# Altium integrated library Analog Devices Data Converters Digital-to-Analog Converters.IntLib: 2231 symbols (part 173 of 181)
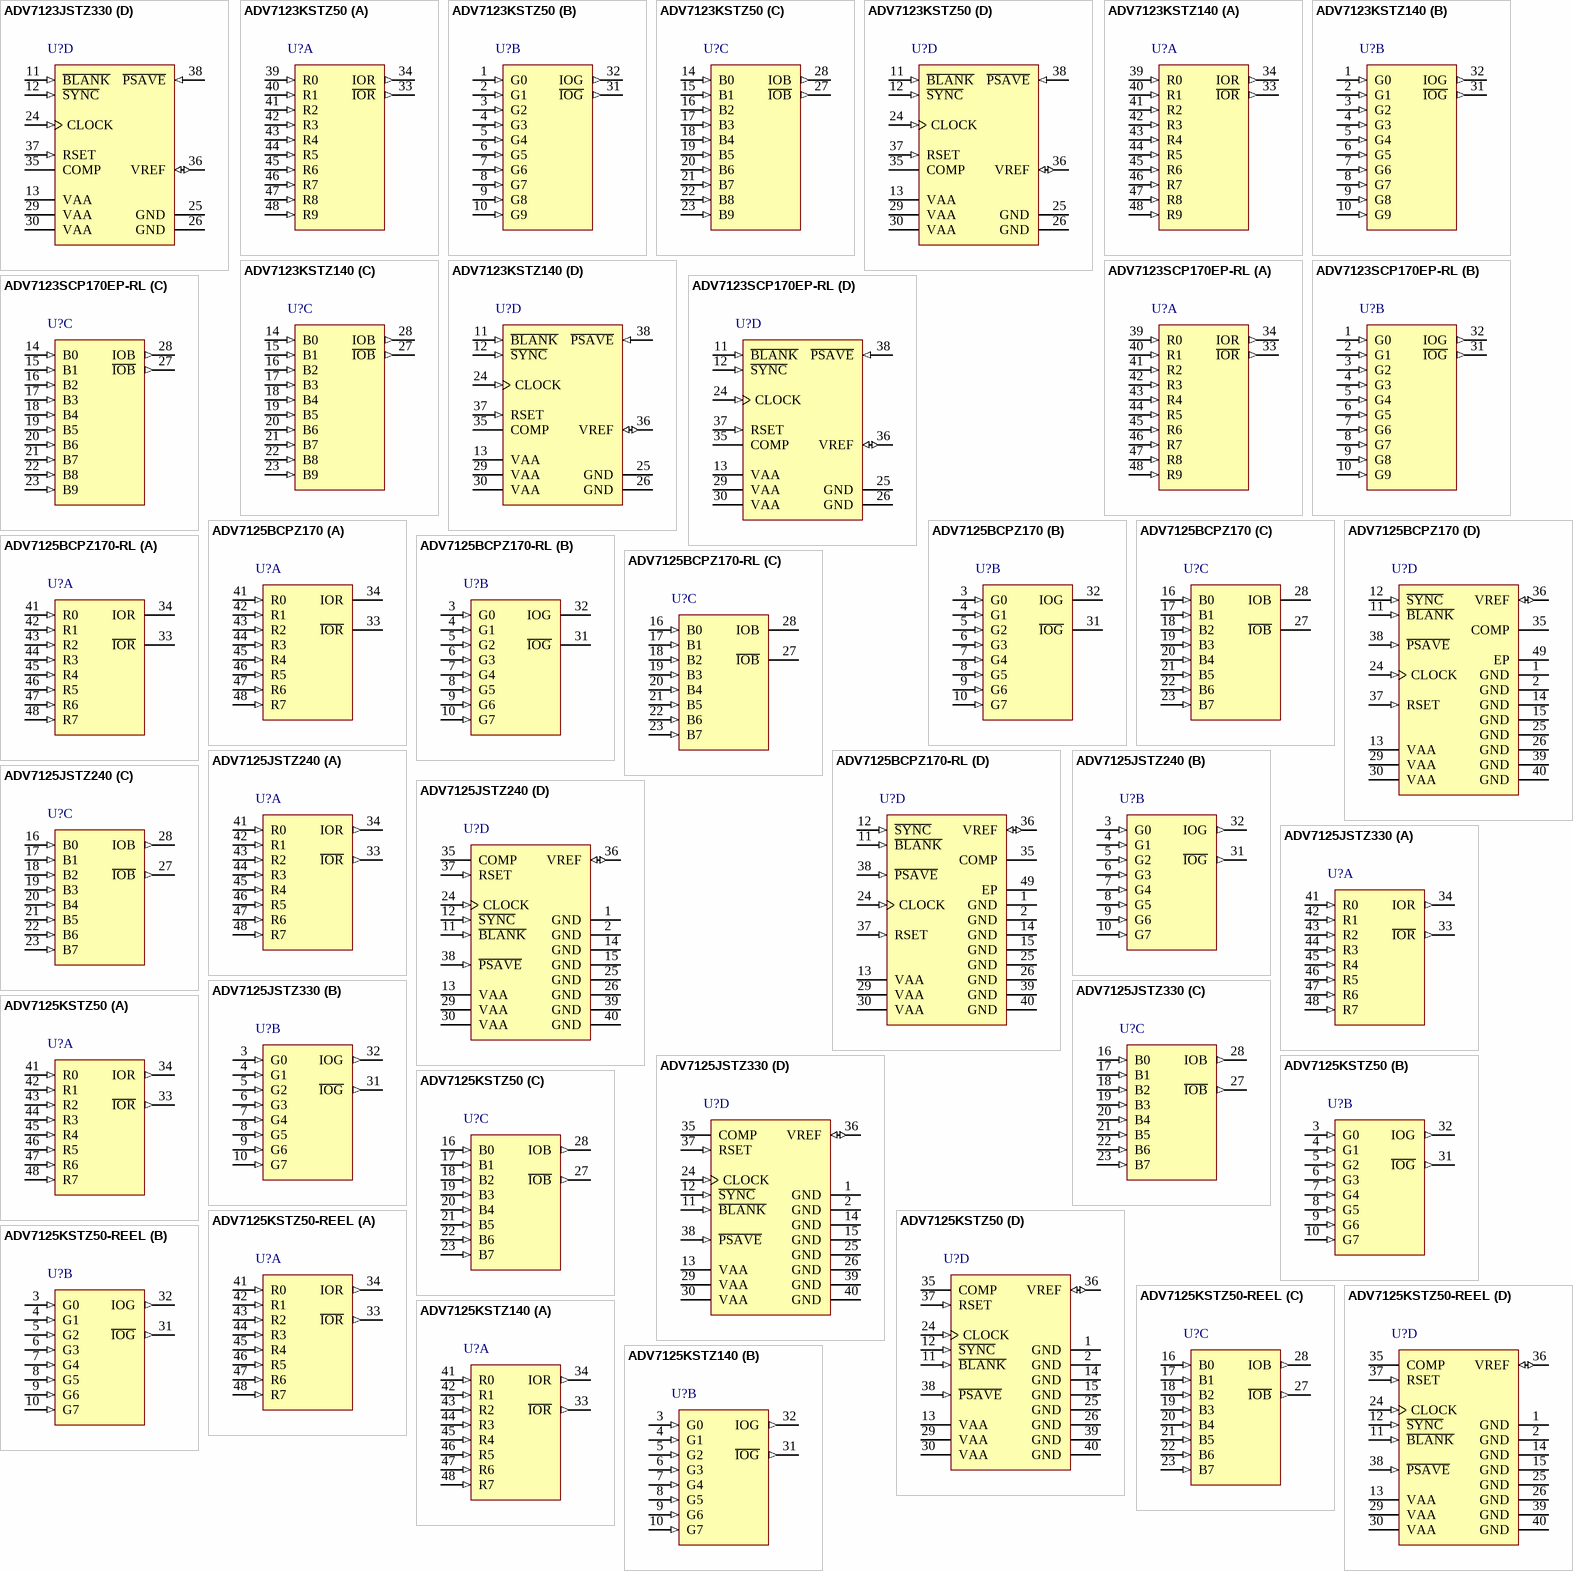
[diagram p286: symbols ADV7123JSTZ330 to ADV7125KSTZ140]

## ADV7125BCPZ170-RL
designator U?
3 Channel 8-Bit CMOS High Speed Video Digital-to-Analog Converter, -40 to +85 degC, CP-48-1, Pb-Free, Reel; Generic Part Number: ADV7125; Manufacturer: Analog Devices; PartNumber: ADV7125BCPZ170-RL; # DAC Outputs: 3; Max V+: 5.25V; Op Pwr Diss: 485mW; Resolution (Bits): 8; Single Supply: No; DatasheetVersion: Rev.C; PackageVersion: Jan-2005; PackageReference: CP-48-1; PackageDescription: 48-Lead Lead Frame Chip Scale Package [LFCSP_VQ] 7 x 7 mm Body, Very Thin Quad; Supplier 1: Mouser; Supplier Part Number 1: N/A; Packing: Reel; RoHS: Y; Mounting Technology: Surface Mount; Code_JEDEC: MO-220-VKKD-2; ComponentLink1Description: Manufacturer URL; ComponentLink1URL: http://www.analog.com/en/index.html; ComponentLink2Description: Datasheet; ComponentLink2URL: http://www.analog.com/static/imported-files/data_sheets/ADV7125.pdf; ComponentLink3Description: Package Specification; ComponentLink3URL: http://www.analog.com/static/imported-files/packages/PKG_PDF/LFCSP(CP)/CP-48/CP_48_1.pdf; ComponentLink4Description: Product URL; ComponentLink4URL: http://www.analog.com/en/digital-to-analog-converters/da-converters/adv7125/products/product.html
footprint CP-48-1_N (QFN, 48-Leads, Body 7x7mm, Pitch 0.5mm, Thermal Pad 5.1x5.1mm, IPC Medium Density)
footprint CP-48-1_L (QFN, 48-Leads, Body 7x7mm, Pitch 0.5mm, Thermal Pad 5.1x5.1mm, IPC High Density)
footprint CP-48-1_M (QFN, 48-Leads, Body 7x7mm, Pitch 0.5mm, Thermal Pad 5.1x5.1mm, IPC Low Density)
part A pins: 33 ~{IOR} (hiz) "Differential Red, Green, and Blue Current Outputs (High Impedance Current Sources). These RGB video outputs are specified to directly drive RS-343A and RS-170 video levels into a doubly terminated 75 ohm load. If the (See Datasheet)", 34 IOR (hiz) "Red, Green, and Blue Current Outputs. These high impedance current sources are capable of directly driving a doubly terminated 75 O coaxial cable. All three current outputs should have similar output loads whether or not (See Datasheet)", 41 R0 (in) "Red, Green, and Blue Pixel Data Inputs (TTL Compatible). Pixel data is latched on the rising edge of CLOCK. R0, G0, and B0 are the least significant data bits. Unused pixel data inputs should be connected to either the (See Datasheet)", 42 R1 (in) "Red, Green, and Blue Pixel Data Inputs (TTL Compatible). Pixel data is latched on the rising edge of CLOCK. R0, G0, and B0 are the least significant data bits. Unused pixel data inputs should be connected to either the (See Datasheet)", 43 R2 (in) "Red, Green, and Blue Pixel Data Inputs (TTL Compatible). Pixel data is latched on the rising edge of CLOCK. R0, G0, and B0 are the least significant data bits. Unused pixel data inputs should be connected to either the (See Datasheet)", 44 R3 (in) "Red, Green, and Blue Pixel Data Inputs (TTL Compatible). Pixel data is latched on the rising edge of CLOCK. R0, G0, and B0 are the least significant data bits. Unused pixel data inputs should be connected to either the (See Datasheet)", 45 R4 (in) "Red, Green, and Blue Pixel Data Inputs (TTL Compatible). Pixel data is latched on the rising edge of CLOCK. R0, G0, and B0 are the least significant data bits. Unused pixel data inputs should be connected to either the (See Datasheet)", 46 R5 (in) "Red, Green, and Blue Pixel Data Inputs (TTL Compatible). Pixel data is latched on the rising edge of CLOCK. R0, G0, and B0 are the least significant data bits. Unused pixel data inputs should be connected to either the (See Datasheet)", 47 R6 (in) "Red, Green, and Blue Pixel Data Inputs (TTL Compatible). Pixel data is latched on the rising edge of CLOCK. R0, G0, and B0 are the least significant data bits. Unused pixel data inputs should be connected to either the (See Datasheet)", 48 R7 (in) "Red, Green, and Blue Pixel Data Inputs (TTL Compatible). Pixel data is latched on the rising edge of CLOCK. R0, G0, and B0 are the least significant data bits. Unused pixel data inputs should be connected to either the (See Datasheet)"
part B pins: 3 G0 (in) "Red, Green, and Blue Pixel Data Inputs (TTL Compatible). Pixel data is latched on the rising edge of CLOCK. R0, G0, and B0 are the least significant data bits. Unused pixel data inputs should be connected to either the (See Datasheet)", 4 G1 (in) "Red, Green, and Blue Pixel Data Inputs (TTL Compatible). Pixel data is latched on the rising edge of CLOCK. R0, G0, and B0 are the least significant data bits. Unused pixel data inputs should be connected to either the (See Datasheet)", 5 G2 (in) "Red, Green, and Blue Pixel Data Inputs (TTL Compatible). Pixel data is latched on the rising edge of CLOCK. R0, G0, and B0 are the least significant data bits. Unused pixel data inputs should be connected to either the (See Datasheet)", 6 G3 (in) "Red, Green, and Blue Pixel Data Inputs (TTL Compatible). Pixel data is latched on the rising edge of CLOCK. R0, G0, and B0 are the least significant data bits. Unused pixel data inputs should be connected to either the (See Datasheet)", 7 G4 (in) "Red, Green, and Blue Pixel Data Inputs (TTL Compatible). Pixel data is latched on the rising edge of CLOCK. R0, G0, and B0 are the least significant data bits. Unused pixel data inputs should be connected to either the (See Datasheet)", 8 G5 (in) "Red, Green, and Blue Pixel Data Inputs (TTL Compatible). Pixel data is latched on the rising edge of CLOCK. R0, G0, and B0 are the least significant data bits. Unused pixel data inputs should be connected to either the (See Datasheet)", 9 G6 (in) "Red, Green, and Blue Pixel Data Inputs (TTL Compatible). Pixel data is latched on the rising edge of CLOCK. R0, G0, and B0 are the least significant data bits. Unused pixel data inputs should be connected to either the (See Datasheet)", 10 G7 (in) "Red, Green, and Blue Pixel Data Inputs (TTL Compatible). Pixel data is latched on the rising edge of CLOCK. R0, G0, and B0 are the least significant data bits. Unused pixel data inputs should be connected to either the (See Datasheet)", 31 ~{IOG} (hiz) "Differential Red, Green, and Blue Current Outputs (High Impedance Current Sources). These RGB video outputs are specified to directly drive RS-343A and RS-170 video levels into a doubly terminated 75 ohm load. If the (See Datasheet)", 32 IOG (hiz) "Red, Green, and Blue Current Outputs. These high impedance current sources are capable of directly driving a doubly terminated 75 O coaxial cable. All three current outputs should have similar output loads whether or not (See Datasheet)"
part C pins: 16 B0 (in) "Red, Green, and Blue Pixel Data Inputs (TTL Compatible). Pixel data is latched on the rising edge of CLOCK. R0, G0, and B0 are the least significant data bits. Unused pixel data inputs should be connected to either the (See Datasheet)", 17 B1 (in) "Red, Green, and Blue Pixel Data Inputs (TTL Compatible). Pixel data is latched on the rising edge of CLOCK. R0, G0, and B0 are the least significant data bits. Unused pixel data inputs should be connected to either the (See Datasheet)", 18 B2 (in) "Red, Green, and Blue Pixel Data Inputs (TTL Compatible). Pixel data is latched on the rising edge of CLOCK. R0, G0, and B0 are the least significant data bits. Unused pixel data inputs should be connected to either the (See Datasheet)", 19 B3 (in) "Red, Green, and Blue Pixel Data Inputs (TTL Compatible). Pixel data is latched on the rising edge of CLOCK. R0, G0, and B0 are the least significant data bits. Unused pixel data inputs should be connected to either the (See Datasheet)", 20 B4 (in) "Red, Green, and Blue Pixel Data Inputs (TTL Compatible). Pixel data is latched on the rising edge of CLOCK. R0, G0, and B0 are the least significant data bits. Unused pixel data inputs should be connected to either the (See Datasheet)", 21 B5 (in) "Red, Green, and Blue Pixel Data Inputs (TTL Compatible). Pixel data is latched on the rising edge of CLOCK. R0, G0, and B0 are the least significant data bits. Unused pixel data inputs should be connected to either the (See Datasheet)", 22 B6 (in) "Red, Green, and Blue Pixel Data Inputs (TTL Compatible). Pixel data is latched on the rising edge of CLOCK. R0, G0, and B0 are the least significant data bits. Unused pixel data inputs should be connected to either the (See Datasheet)", 23 B7 (in) "Red, Green, and Blue Pixel Data Inputs (TTL Compatible). Pixel data is latched on the rising edge of CLOCK. R0, G0, and B0 are the least significant data bits. Unused pixel data inputs should be connected to either the (See Datasheet)", 27 ~{IOB} (hiz) "Differential Red, Green, and Blue Current Outputs (High Impedance Current Sources). These RGB video outputs are specified to directly drive RS-343A and RS-170 video levels into a doubly terminated 75 ohm load. If the (See Datasheet)", 28 IOB (hiz) "Red, Green, and Blue Current Outputs. These high impedance current sources are capable of directly driving a doubly terminated 75 O coaxial cable. All three current outputs should have similar output loads whether or not (See Datasheet)"
part D pins: 1 GND (power) "Ground. All GND pins must be connected.", 2 GND (power) "Ground. All GND pins must be connected.", 11 ~{BLANK} (in) "Composite Blank Control Input (TTL Compatible). A Logic 0 on this control input drives the analog outputs, IOR, IOB, and IOG, to the blanking level. The B\L\A\N\K\ signal is latched on the rising edge of CLOCK. While (See Datasheet)", 12 ~{SYNC} (in) "Composite Sync Control Input (TTL Compatible). A Logic 0 on the S\Y\N\C\ input switches off a  40 IRE current source. This is internally connected to the IOG analog output. S\Y\N\C\ does not override any other control or (See Datasheet)", 13 VAA (power) "Analog Power Supply (5 V +/- 5%). All VAA pins on the ADV7125 must be connected.", 14 GND (power) "Ground. All GND pins must be connected.", 15 GND (power) "Ground. All GND pins must be connected.", 24 CLOCK (in) "Clock Input (TTL Compatible). The rising edge of CLOCK latches the R0 to R7, G0 to G7, B0 to B7, S\Y\N\C\, and B\L\A\N\K\ pixel and control inputs. It is typically the pixel clock rate of the video system. CLOCK should be (See Datasheet)", 25 GND (power) "Ground. All GND pins must be connected.", 26 GND (power) "Ground. All GND pins must be connected.", 29 VAA (power) "Analog Power Supply (5 V +/- 5%). All VAA pins on the ADV7125 must be connected.", 30 VAA (power) "Analog Power Supply (5 V +/- 5%). All VAA pins on the ADV7125 must be connected.", 35 COMP "Compensation Pin. This is a compensation pin for the internal reference amplifier. A 0.1 uF ceramic capacitor must be connected between COMP and VAA.", 36 VREF (io) "Voltage Reference Input for DACs or Voltage Reference Output (1.235 V).", 37 RSET (in) "A resistor (RSET) connected between this pin and GND controls the magnitude of the full-scale video signal. Note that the IRE relationships are maintained, regardless of the full-scale output current. The RSET (ohm) = 11,445 (See Datasheet)", 38 ~{PSAVE} (in) "Power Save Control Pin. Reduced power consumption is available on the ADV7125 when this pin is active.", 39 GND (power) "Ground. All GND pins must be connected.", 40 GND (power) "Ground. All GND pins must be connected.", 49 EP (power) "The LFCSP_VQ has an exposed paddle that must be connected to GND."

## ADV7125JSTZ240
designator U?
3 Channel 8-Bit CMOS High Speed Video Digital-to-Analog Converter, 0 to +70 degC, ST-48, Pb-Free, Tray; Generic Part Number: ADV7125; Manufacturer: Analog Devices; PartNumber: ADV7125JSTZ240; # DAC Outputs: 3; Max V+: 5.25V; Op Pwr Diss: 485mW; Resolution (Bits): 8; Single Supply: No; DatasheetVersion: Rev.C; PackageVersion: revA; PackageReference: ST-48; PackageDescription: 48-Pin Thin Quad Flat Pack 0.5 mm Pitch; Supplier 1: Digi-Key; Supplier Part Number 1: ADV7125JSTZ240-ND; Supplier 2: Farnell; Supplier Part Number 2: 1438733; Supplier 3: Newark; Supplier Part Number 3: 12M8411; Supplier 4: Mouser; Supplier Part Number 4: 584-ADV7125JSTZ240; Packing: Tray; RoHS: Y; Mounting Technology: Surface Mount; ComponentLink1Description: Manufacturer URL; ComponentLink1URL: http://www.analog.com/en/index.html; ComponentLink2Description: Datasheet; ComponentLink2URL: http://www.analog.com/static/imported-files/data_sheets/ADV7125.pdf; ComponentLink3Description: Package Specification; ComponentLink3URL: http://www.analog.com/static/imported-files/packages/PKG_PDF/LQFP%28ST%29/ST_48.pdf; ComponentLink4Description: Product URL; ComponentLink4URL: http://www.analog.com/en/digital-to-analog-converters/da-converters/adv7125/products/product.html
footprint ST-48_N (Thin QFP, 48-Leads, Body 7x7mm, Pitch 0.5mm, IPC Medium Density)
footprint ST-48_L (Thin QFP, 48-Leads, Body 7x7mm, Pitch 0.5mm, IPC High Density)
footprint ST-48_M (Thin QFP, 48-Leads, Body 7x7mm, Pitch 0.5mm, IPC Low Density)
part A pins: 33 ~{IOR} (out) "Differential Red, Green, and Blue Current Outputs (High Impedance Current Sources). These RGB video outputs are specified to directly drive RS-343A and RS-170 video levels into a doubly terminated 75 ohm load. If the (See Datasheet)", 34 IOR (out) "Red, Green, and Blue Current Outputs. These high impedance current sources are capable of directly driving a doubly terminated 75 ohm coaxial cable. All three current outputs should have similar output loads whether or not (See Datasheet)", 41 R0 (in) "Red Pixel Data Inputs (TTL Compatible). Pixel data is latched on the rising edge of CLOCK. R0, G0, and B0 are the least significant data bits. Unused pixel data inputs should be connected to either the regular printed (See Datasheet)", 42 R1 (in) "Red Pixel Data Inputs (TTL Compatible). Pixel data is latched on the rising edge of CLOCK. R0, G0, and B0 are the least significant data bits. Unused pixel data inputs should be connected to either the regular printed (See Datasheet)", 43 R2 (in) "Red Pixel Data Inputs (TTL Compatible). Pixel data is latched on the rising edge of CLOCK. R0, G0, and B0 are the least significant data bits. Unused pixel data inputs should be connected to either the regular printed (See Datasheet)", 44 R3 (in) "Red Pixel Data Inputs (TTL Compatible). Pixel data is latched on the rising edge of CLOCK. R0, G0, and B0 are the least significant data bits. Unused pixel data inputs should be connected to either the regular printed (See Datasheet)", 45 R4 (in) "Red Pixel Data Inputs (TTL Compatible). Pixel data is latched on the rising edge of CLOCK. R0, G0, and B0 are the least significant data bits. Unused pixel data inputs should be connected to either the regular printed (See Datasheet)", 46 R5 (in) "Red Pixel Data Inputs (TTL Compatible). Pixel data is latched on the rising edge of CLOCK. R0, G0, and B0 are the least significant data bits. Unused pixel data inputs should be connected to either the regular printed (See Datasheet)", 47 R6 (in) "Red Pixel Data Inputs (TTL Compatible). Pixel data is latched on the rising edge of CLOCK. R0, G0, and B0 are the least significant data bits. Unused pixel data inputs should be connected to either the regular printed (See Datasheet)", 48 R7 (in) "Red Pixel Data Inputs (TTL Compatible). Pixel data is latched on the rising edge of CLOCK. R0, G0, and B0 are the least significant data bits. Unused pixel data inputs should be connected to either the regular printed (See Datasheet)"
part B pins: 3 G0 (in) "Green Pixel Data Inputs (TTL Compatible). Pixel data is latched on the rising edge of CLOCK. R0, G0, and B0 are the least significant data bits. Unused pixel data inputs should be connected to either the regular printed (See Datasheet)", 4 G1 (in) "Green Pixel Data Inputs (TTL Compatible). Pixel data is latched on the rising edge of CLOCK. R0, G0, and B0 are the least significant data bits. Unused pixel data inputs should be connected to either the regular printed (See Datasheet)", 5 G2 (in) "Green Pixel Data Inputs (TTL Compatible). Pixel data is latched on the rising edge of CLOCK. R0, G0, and B0 are the least significant data bits. Unused pixel data inputs should be connected to either the regular printed (See Datasheet)", 6 G3 (in) "Green Pixel Data Inputs (TTL Compatible). Pixel data is latched on the rising edge of CLOCK. R0, G0, and B0 are the least significant data bits. Unused pixel data inputs should be connected to either the regular printed (See Datasheet)", 7 G4 (in) "Green Pixel Data Inputs (TTL Compatible). Pixel data is latched on the rising edge of CLOCK. R0, G0, and B0 are the least significant data bits. Unused pixel data inputs should be connected to either the regular printed (See Datasheet)", 8 G5 (in) "Green Pixel Data Inputs (TTL Compatible). Pixel data is latched on the rising edge of CLOCK. R0, G0, and B0 are the least significant data bits. Unused pixel data inputs should be connected to either the regular printed (See Datasheet)", 9 G6 (in) "Green Pixel Data Inputs (TTL Compatible). Pixel data is latched on the rising edge of CLOCK. R0, G0, and B0 are the least significant data bits. Unused pixel data inputs should be connected to either the regular printed (See Datasheet)", 10 G7 (in) "Green Pixel Data Inputs (TTL Compatible). Pixel data is latched on the rising edge of CLOCK. R0, G0, and B0 are the least significant data bits. Unused pixel data inputs should be connected to either the regular printed (See Datasheet)", 31 ~{IOG} (out) "Differential Red, Green, and Blue Current Outputs (High Impedance Current Sources). These RGB video outputs are specified to directly drive RS-343A and RS-170 video levels into a doubly terminated 75 ohm load. If the (See Datasheet)", 32 IOG (out) "Red, Green, and Blue Current Outputs. These high impedance current sources are capable of directly driving a doubly terminated 75 ohm coaxial cable. All three current outputs should have similar output loads whether or not (See Datasheet)"
part C pins: 16 B0 (in) "Blue Pixel Data Inputs (TTL Compatible). Pixel data is latched on the rising edge of CLOCK. R0, G0, and B0 are the least significant data bits. Unused pixel data inputs should be connected to either the regular printed (See Datasheet)", 17 B1 (in) "Blue Pixel Data Inputs (TTL Compatible). Pixel data is latched on the rising edge of CLOCK. R0, G0, and B0 are the least significant data bits. Unused pixel data inputs should be connected to either the regular printed (See Datasheet)", 18 B2 (in) "Blue Pixel Data Inputs (TTL Compatible). Pixel data is latched on the rising edge of CLOCK. R0, G0, and B0 are the least significant data bits. Unused pixel data inputs should be connected to either the regular printed (See Datasheet)", 19 B3 (in) "Blue Pixel Data Inputs (TTL Compatible). Pixel data is latched on the rising edge of CLOCK. R0, G0, and B0 are the least significant data bits. Unused pixel data inputs should be connected to either the regular printed (See Datasheet)", 20 B4 (in) "Blue Pixel Data Inputs (TTL Compatible). Pixel data is latched on the rising edge of CLOCK. R0, G0, and B0 are the least significant data bits. Unused pixel data inputs should be connected to either the regular printed (See Datasheet)", 21 B5 (in) "Blue Pixel Data Inputs (TTL Compatible). Pixel data is latched on the rising edge of CLOCK. R0, G0, and B0 are the least significant data bits. Unused pixel data inputs should be connected to either the regular printed (See Datasheet)", 22 B6 (in) "Blue Pixel Data Inputs (TTL Compatible). Pixel data is latched on the rising edge of CLOCK. R0, G0, and B0 are the least significant data bits. Unused pixel data inputs should be connected to either the regular printed (See Datasheet)", 23 B7 (in) "Blue Pixel Data Inputs (TTL Compatible). Pixel data is latched on the rising edge of CLOCK. R0, G0, and B0 are the least significant data bits. Unused pixel data inputs should be connected to either the regular printed (See Datasheet)", 27 ~{IOB} (out) "Differential Red, Green, and Blue Current Outputs (High Impedance Current Sources). These RGB video outputs are specified to directly drive RS-343A and RS-170 video levels into a doubly terminated 75 ohm load. If the (See Datasheet)", 28 IOB (out) "Red, Green, and Blue Current Outputs. These high impedance current sources are capable of directly driving a doubly terminated 75 ohm coaxial cable. All three current outputs should have similar output loads whether or not (See Datasheet)"
part D pins: 1 GND (power) "Ground. All GND pins must be connected.", 2 GND (power) "Ground. All GND pins must be connected.", 11 ~{BLANK} (in) "Composite Blank Control Input (TTL Compatible). A Logic 0 on this control input drives the analog outputs, IOR, IOB, and IOG, to the blanking level. The B\L\A\N\K\ signal is latched on the rising edge of CLOCK. While (See Datasheet)", 12 ~{SYNC} (in) "Composite Sync Control Input (TTL Compatible). A Logic 0 on the S\Y\N\C\ input switches off a 40 IRE current source. This is internally connected to the IOG analog output. S\Y\N\C\ does not override any other control or data (See Datasheet)", 13 VAA (power) "Analog Power Supply (5 V +/- 5%). All VAA pins on the ADV7125 must be connected.", 14 GND (power) "Ground. All GND pins must be connected.", 15 GND (power) "Ground. All GND pins must be connected.", 24 CLOCK (in) "Clock Input (TTL Compatible). The rising edge of CLOCK latches the R0 to R7, G0 to G7, B0 to B7, S\Y\N\C\, and B\L\A\N\K\ pixel and control inputs. It is typically the pixel clock rate of the video system. CLOCK should be (See Datasheet)", 25 GND (power) "Ground. All GND pins must be connected.", 26 GND (power) "Ground. All GND pins must be connected.", 29 VAA (power) "Analog Power Supply (5 V +/- 5%). All VAA pins on the ADV7125 must be connected.", 30 VAA (power) "Analog Power Supply (5 V +/- 5%). All VAA pins on the ADV7125 must be connected.", 35 COMP "Compensation Pin. This is a compensation pin for the internal reference amplifier. A 0.1 uF ceramic capacitor must be connected between COMP and VAA.", 36 VREF (io) "Voltage Reference Input for DACs or Voltage Reference Output (1.235 V).", 37 RSET (in) "A resistor (RSET) connected between this pin and GND controls the magnitude of the full-scale video signal. Note that the IRE relationships are maintained, regardless of the full-scale output current. The relationship (See Datasheet)", 38 ~{PSAVE} (in) "Power Save Control Pin. Reduced power consumption is available on the ADV7125 when this pin is active.", 39 GND (power) "Ground. All GND pins must be connected.", 40 GND (power) "Ground. All GND pins must be connected."

## ADV7125JSTZ330
designator U?
3 Channel 8-Bit CMOS High Speed Video Digital-to-Analog Converter, 0 to +70 degC, ST-48, Pb-Free, Tray; Generic Part Number: ADV7125; Manufacturer: Analog Devices; PartNumber: ADV7125JSTZ330; # DAC Outputs: 3; Max V+: 5.25V; Op Pwr Diss: 485mW; Resolution (Bits): 8; Single Supply: No; DatasheetVersion: Rev.C; PackageVersion: revA; PackageReference: ST-48; PackageDescription: 48-Pin Thin Quad Flat Pack 0.5 mm Pitch; Supplier 1: Digi-Key; Supplier Part Number 1: ADV7125JSTZ330-ND; Supplier 2: Newark; Supplier Part Number 2: 59K3317; Supplier 3: Mouser; Supplier Part Number 3: 584-ADV7125JSTZ330; Packing: Tray; RoHS: Y; Mounting Technology: Surface Mount; ComponentLink1Description: Manufacturer URL; ComponentLink1URL: http://www.analog.com/en/index.html; ComponentLink2Description: Datasheet; ComponentLink2URL: http://www.analog.com/static/imported-files/data_sheets/ADV7125.pdf; ComponentLink3Description: Package Specification; ComponentLink3URL: http://www.analog.com/static/imported-files/packages/PKG_PDF/LQFP%28ST%29/ST_48.pdf; ComponentLink4Description: Product URL; ComponentLink4URL: http://www.analog.com/en/digital-to-analog-converters/da-converters/adv7125/products/product.html
footprint ST-48_N (Thin QFP, 48-Leads, Body 7x7mm, Pitch 0.5mm, IPC Medium Density)
footprint ST-48_L (Thin QFP, 48-Leads, Body 7x7mm, Pitch 0.5mm, IPC High Density)
footprint ST-48_M (Thin QFP, 48-Leads, Body 7x7mm, Pitch 0.5mm, IPC Low Density)
part A pins: 33 ~{IOR} (out) "Differential Red, Green, and Blue Current Outputs (High Impedance Current Sources). These RGB video outputs are specified to directly drive RS-343A and RS-170 video levels into a doubly terminated 75 ohm load. If the (See Datasheet)", 34 IOR (out) "Red, Green, and Blue Current Outputs. These high impedance current sources are capable of directly driving a doubly terminated 75 ohm coaxial cable. All three current outputs should have similar output loads whether or not (See Datasheet)", 41 R0 (in) "Red Pixel Data Inputs (TTL Compatible). Pixel data is latched on the rising edge of CLOCK. R0, G0, and B0 are the least significant data bits. Unused pixel data inputs should be connected to either the regular printed (See Datasheet)", 42 R1 (in) "Red Pixel Data Inputs (TTL Compatible). Pixel data is latched on the rising edge of CLOCK. R0, G0, and B0 are the least significant data bits. Unused pixel data inputs should be connected to either the regular printed (See Datasheet)", 43 R2 (in) "Red Pixel Data Inputs (TTL Compatible). Pixel data is latched on the rising edge of CLOCK. R0, G0, and B0 are the least significant data bits. Unused pixel data inputs should be connected to either the regular printed (See Datasheet)", 44 R3 (in) "Red Pixel Data Inputs (TTL Compatible). Pixel data is latched on the rising edge of CLOCK. R0, G0, and B0 are the least significant data bits. Unused pixel data inputs should be connected to either the regular printed (See Datasheet)", 45 R4 (in) "Red Pixel Data Inputs (TTL Compatible). Pixel data is latched on the rising edge of CLOCK. R0, G0, and B0 are the least significant data bits. Unused pixel data inputs should be connected to either the regular printed (See Datasheet)", 46 R5 (in) "Red Pixel Data Inputs (TTL Compatible). Pixel data is latched on the rising edge of CLOCK. R0, G0, and B0 are the least significant data bits. Unused pixel data inputs should be connected to either the regular printed (See Datasheet)", 47 R6 (in) "Red Pixel Data Inputs (TTL Compatible). Pixel data is latched on the rising edge of CLOCK. R0, G0, and B0 are the least significant data bits. Unused pixel data inputs should be connected to either the regular printed (See Datasheet)", 48 R7 (in) "Red Pixel Data Inputs (TTL Compatible). Pixel data is latched on the rising edge of CLOCK. R0, G0, and B0 are the least significant data bits. Unused pixel data inputs should be connected to either the regular printed (See Datasheet)"
part B pins: 3 G0 (in) "Green Pixel Data Inputs (TTL Compatible). Pixel data is latched on the rising edge of CLOCK. R0, G0, and B0 are the least significant data bits. Unused pixel data inputs should be connected to either the regular printed (See Datasheet)", 4 G1 (in) "Green Pixel Data Inputs (TTL Compatible). Pixel data is latched on the rising edge of CLOCK. R0, G0, and B0 are the least significant data bits. Unused pixel data inputs should be connected to either the regular printed (See Datasheet)", 5 G2 (in) "Green Pixel Data Inputs (TTL Compatible). Pixel data is latched on the rising edge of CLOCK. R0, G0, and B0 are the least significant data bits. Unused pixel data inputs should be connected to either the regular printed (See Datasheet)", 6 G3 (in) "Green Pixel Data Inputs (TTL Compatible). Pixel data is latched on the rising edge of CLOCK. R0, G0, and B0 are the least significant data bits. Unused pixel data inputs should be connected to either the regular printed (See Datasheet)", 7 G4 (in) "Green Pixel Data Inputs (TTL Compatible). Pixel data is latched on the rising edge of CLOCK. R0, G0, and B0 are the least significant data bits. Unused pixel data inputs should be connected to either the regular printed (See Datasheet)", 8 G5 (in) "Green Pixel Data Inputs (TTL Compatible). Pixel data is latched on the rising edge of CLOCK. R0, G0, and B0 are the least significant data bits. Unused pixel data inputs should be connected to either the regular printed (See Datasheet)", 9 G6 (in) "Green Pixel Data Inputs (TTL Compatible). Pixel data is latched on the rising edge of CLOCK. R0, G0, and B0 are the least significant data bits. Unused pixel data inputs should be connected to either the regular printed (See Datasheet)", 10 G7 (in) "Green Pixel Data Inputs (TTL Compatible). Pixel data is latched on the rising edge of CLOCK. R0, G0, and B0 are the least significant data bits. Unused pixel data inputs should be connected to either the regular printed (See Datasheet)", 31 ~{IOG} (out) "Differential Red, Green, and Blue Current Outputs (High Impedance Current Sources). These RGB video outputs are specified to directly drive RS-343A and RS-170 video levels into a doubly terminated 75 ohm load. If the (See Datasheet)", 32 IOG (out) "Red, Green, and Blue Current Outputs. These high impedance current sources are capable of directly driving a doubly terminated 75 ohm coaxial cable. All three current outputs should have similar output loads whether or not (See Datasheet)"
part C pins: 16 B0 (in) "Blue Pixel Data Inputs (TTL Compatible). Pixel data is latched on the rising edge of CLOCK. R0, G0, and B0 are the least significant data bits. Unused pixel data inputs should be connected to either the regular printed (See Datasheet)", 17 B1 (in) "Blue Pixel Data Inputs (TTL Compatible). Pixel data is latched on the rising edge of CLOCK. R0, G0, and B0 are the least significant data bits. Unused pixel data inputs should be connected to either the regular printed (See Datasheet)", 18 B2 (in) "Blue Pixel Data Inputs (TTL Compatible). Pixel data is latched on the rising edge of CLOCK. R0, G0, and B0 are the least significant data bits. Unused pixel data inputs should be connected to either the regular printed (See Datasheet)", 19 B3 (in) "Blue Pixel Data Inputs (TTL Compatible). Pixel data is latched on the rising edge of CLOCK. R0, G0, and B0 are the least significant data bits. Unused pixel data inputs should be connected to either the regular printed (See Datasheet)", 20 B4 (in) "Blue Pixel Data Inputs (TTL Compatible). Pixel data is latched on the rising edge of CLOCK. R0, G0, and B0 are the least significant data bits. Unused pixel data inputs should be connected to either the regular printed (See Datasheet)", 21 B5 (in) "Blue Pixel Data Inputs (TTL Compatible). Pixel data is latched on the rising edge of CLOCK. R0, G0, and B0 are the least significant data bits. Unused pixel data inputs should be connected to either the regular printed (See Datasheet)", 22 B6 (in) "Blue Pixel Data Inputs (TTL Compatible). Pixel data is latched on the rising edge of CLOCK. R0, G0, and B0 are the least significant data bits. Unused pixel data inputs should be connected to either the regular printed (See Datasheet)", 23 B7 (in) "Blue Pixel Data Inputs (TTL Compatible). Pixel data is latched on the rising edge of CLOCK. R0, G0, and B0 are the least significant data bits. Unused pixel data inputs should be connected to either the regular printed (See Datasheet)", 27 ~{IOB} (out) "Differential Red, Green, and Blue Current Outputs (High Impedance Current Sources). These RGB video outputs are specified to directly drive RS-343A and RS-170 video levels into a doubly terminated 75 ohm load. If the (See Datasheet)", 28 IOB (out) "Red, Green, and Blue Current Outputs. These high impedance current sources are capable of directly driving a doubly terminated 75 ohm coaxial cable. All three current outputs should have similar output loads whether or not (See Datasheet)"
part D pins: 1 GND (power) "Ground. All GND pins must be connected.", 2 GND (power) "Ground. All GND pins must be connected.", 11 ~{BLANK} (in) "Composite Blank Control Input (TTL Compatible). A Logic 0 on this control input drives the analog outputs, IOR, IOB, and IOG, to the blanking level. The B\L\A\N\K\ signal is latched on the rising edge of CLOCK. While (See Datasheet)", 12 ~{SYNC} (in) "Composite Sync Control Input (TTL Compatible). A Logic 0 on the S\Y\N\C\ input switches off a 40 IRE current source. This is internally connected to the IOG analog output. S\Y\N\C\ does not override any other control or data (See Datasheet)", 13 VAA (power) "Analog Power Supply (5 V +/- 5%). All VAA pins on the ADV7125 must be connected.", 14 GND (power) "Ground. All GND pins must be connected.", 15 GND (power) "Ground. All GND pins must be connected.", 24 CLOCK (in) "Clock Input (TTL Compatible). The rising edge of CLOCK latches the R0 to R7, G0 to G7, B0 to B7, S\Y\N\C\, and B\L\A\N\K\ pixel and control inputs. It is typically the pixel clock rate of the video system. CLOCK should be (See Datasheet)", 25 GND (power) "Ground. All GND pins must be connected.", 26 GND (power) "Ground. All GND pins must be connected.", 29 VAA (power) "Analog Power Supply (5 V +/- 5%). All VAA pins on the ADV7125 must be connected.", 30 VAA (power) "Analog Power Supply (5 V +/- 5%). All VAA pins on the ADV7125 must be connected.", 35 COMP "Compensation Pin. This is a compensation pin for the internal reference amplifier. A 0.1 uF ceramic capacitor must be connected between COMP and VAA.", 36 VREF (io) "Voltage Reference Input for DACs or Voltage Reference Output (1.235 V).", 37 RSET (in) "A resistor (RSET) connected between this pin and GND controls the magnitude of the full-scale video signal. Note that the IRE relationships are maintained, regardless of the full-scale output current. The relationship (See Datasheet)", 38 ~{PSAVE} (in) "Power Save Control Pin. Reduced power consumption is available on the ADV7125 when this pin is active.", 39 GND (power) "Ground. All GND pins must be connected.", 40 GND (power) "Ground. All GND pins must be connected."

## ADV7125KSTZ50
designator U?
3 Channel 8-Bit CMOS High Speed Video Digital-to-Analog Converter, -40 to +85 degC, ST-48, Pb-Free, Tray; Generic Part Number: ADV7125; Manufacturer: Analog Devices; PartNumber: ADV7125KSTZ50; # DAC Outputs: 3; Max V+: 5.25V; Op Pwr Diss: 485mW; Resolution (Bits): 8; Single Supply: No; DatasheetVersion: Rev.C; PackageVersion: revA; PackageReference: ST-48; PackageDescription: 48-Pin Thin Quad Flat Pack 0.5 mm Pitch; Supplier 1: Digi-Key; Supplier Part Number 1: ADV7125KSTZ50-ND; Supplier 2: Farnell; Supplier Part Number 2: 1661047; Supplier 3: Newark; Supplier Part Number 3: 19M8776; Supplier 4: Mouser; Supplier Part Number 4: 584-ADV7125KSTZ50; Packing: Tray; RoHS: Y; Mounting Technology: Surface Mount; ComponentLink1Description: Manufacturer URL; ComponentLink1URL: http://www.analog.com/en/index.html; ComponentLink2Description: Datasheet; ComponentLink2URL: http://www.analog.com/static/imported-files/data_sheets/ADV7125.pdf; ComponentLink3Description: Package Specification; ComponentLink3URL: http://www.analog.com/static/imported-files/packages/PKG_PDF/LQFP%28ST%29/ST_48.pdf; ComponentLink4Description: Product URL; ComponentLink4URL: http://www.analog.com/en/digital-to-analog-converters/da-converters/adv7125/products/product.html
footprint ST-48_N (Thin QFP, 48-Leads, Body 7x7mm, Pitch 0.5mm, IPC Medium Density)
footprint ST-48_L (Thin QFP, 48-Leads, Body 7x7mm, Pitch 0.5mm, IPC High Density)
footprint ST-48_M (Thin QFP, 48-Leads, Body 7x7mm, Pitch 0.5mm, IPC Low Density)
part A pins: 33 ~{IOR} (out) "Differential Red, Green, and Blue Current Outputs (High Impedance Current Sources). These RGB video outputs are specified to directly drive RS-343A and RS-170 video levels into a doubly terminated 75 ohm load. If the (See Datasheet)", 34 IOR (out) "Red, Green, and Blue Current Outputs. These high impedance current sources are capable of directly driving a doubly terminated 75 ohm coaxial cable. All three current outputs should have similar output loads whether or not (See Datasheet)", 41 R0 (in) "Red Pixel Data Inputs (TTL Compatible). Pixel data is latched on the rising edge of CLOCK. R0, G0, and B0 are the least significant data bits. Unused pixel data inputs should be connected to either the regular printed (See Datasheet)", 42 R1 (in) "Red Pixel Data Inputs (TTL Compatible). Pixel data is latched on the rising edge of CLOCK. R0, G0, and B0 are the least significant data bits. Unused pixel data inputs should be connected to either the regular printed (See Datasheet)", 43 R2 (in) "Red Pixel Data Inputs (TTL Compatible). Pixel data is latched on the rising edge of CLOCK. R0, G0, and B0 are the least significant data bits. Unused pixel data inputs should be connected to either the regular printed (See Datasheet)", 44 R3 (in) "Red Pixel Data Inputs (TTL Compatible). Pixel data is latched on the rising edge of CLOCK. R0, G0, and B0 are the least significant data bits. Unused pixel data inputs should be connected to either the regular printed (See Datasheet)", 45 R4 (in) "Red Pixel Data Inputs (TTL Compatible). Pixel data is latched on the rising edge of CLOCK. R0, G0, and B0 are the least significant data bits. Unused pixel data inputs should be connected to either the regular printed (See Datasheet)", 46 R5 (in) "Red Pixel Data Inputs (TTL Compatible). Pixel data is latched on the rising edge of CLOCK. R0, G0, and B0 are the least significant data bits. Unused pixel data inputs should be connected to either the regular printed (See Datasheet)", 47 R6 (in) "Red Pixel Data Inputs (TTL Compatible). Pixel data is latched on the rising edge of CLOCK. R0, G0, and B0 are the least significant data bits. Unused pixel data inputs should be connected to either the regular printed (See Datasheet)", 48 R7 (in) "Red Pixel Data Inputs (TTL Compatible). Pixel data is latched on the rising edge of CLOCK. R0, G0, and B0 are the least significant data bits. Unused pixel data inputs should be connected to either the regular printed (See Datasheet)"
part B pins: 3 G0 (in) "Green Pixel Data Inputs (TTL Compatible). Pixel data is latched on the rising edge of CLOCK. R0, G0, and B0 are the least significant data bits. Unused pixel data inputs should be connected to either the regular printed (See Datasheet)", 4 G1 (in) "Green Pixel Data Inputs (TTL Compatible). Pixel data is latched on the rising edge of CLOCK. R0, G0, and B0 are the least significant data bits. Unused pixel data inputs should be connected to either the regular printed (See Datasheet)", 5 G2 (in) "Green Pixel Data Inputs (TTL Compatible). Pixel data is latched on the rising edge of CLOCK. R0, G0, and B0 are the least significant data bits. Unused pixel data inputs should be connected to either the regular printed (See Datasheet)", 6 G3 (in) "Green Pixel Data Inputs (TTL Compatible). Pixel data is latched on the rising edge of CLOCK. R0, G0, and B0 are the least significant data bits. Unused pixel data inputs should be connected to either the regular printed (See Datasheet)", 7 G4 (in) "Green Pixel Data Inputs (TTL Compatible). Pixel data is latched on the rising edge of CLOCK. R0, G0, and B0 are the least significant data bits. Unused pixel data inputs should be connected to either the regular printed (See Datasheet)", 8 G5 (in) "Green Pixel Data Inputs (TTL Compatible). Pixel data is latched on the rising edge of CLOCK. R0, G0, and B0 are the least significant data bits. Unused pixel data inputs should be connected to either the regular printed (See Datasheet)", 9 G6 (in) "Green Pixel Data Inputs (TTL Compatible). Pixel data is latched on the rising edge of CLOCK. R0, G0, and B0 are the least significant data bits. Unused pixel data inputs should be connected to either the regular printed (See Datasheet)", 10 G7 (in) "Green Pixel Data Inputs (TTL Compatible). Pixel data is latched on the rising edge of CLOCK. R0, G0, and B0 are the least significant data bits. Unused pixel data inputs should be connected to either the regular printed (See Datasheet)", 31 ~{IOG} (out) "Differential Red, Green, and Blue Current Outputs (High Impedance Current Sources). These RGB video outputs are specified to directly drive RS-343A and RS-170 video levels into a doubly terminated 75 ohm load. If the (See Datasheet)", 32 IOG (out) "Red, Green, and Blue Current Outputs. These high impedance current sources are capable of directly driving a doubly terminated 75 ohm coaxial cable. All three current outputs should have similar output loads whether or not (See Datasheet)"
part C pins: 16 B0 (in) "Blue Pixel Data Inputs (TTL Compatible). Pixel data is latched on the rising edge of CLOCK. R0, G0, and B0 are the least significant data bits. Unused pixel data inputs should be connected to either the regular printed (See Datasheet)", 17 B1 (in) "Blue Pixel Data Inputs (TTL Compatible). Pixel data is latched on the rising edge of CLOCK. R0, G0, and B0 are the least significant data bits. Unused pixel data inputs should be connected to either the regular printed (See Datasheet)", 18 B2 (in) "Blue Pixel Data Inputs (TTL Compatible). Pixel data is latched on the rising edge of CLOCK. R0, G0, and B0 are the least significant data bits. Unused pixel data inputs should be connected to either the regular printed (See Datasheet)", 19 B3 (in) "Blue Pixel Data Inputs (TTL Compatible). Pixel data is latched on the rising edge of CLOCK. R0, G0, and B0 are the least significant data bits. Unused pixel data inputs should be connected to either the regular printed (See Datasheet)", 20 B4 (in) "Blue Pixel Data Inputs (TTL Compatible). Pixel data is latched on the rising edge of CLOCK. R0, G0, and B0 are the least significant data bits. Unused pixel data inputs should be connected to either the regular printed (See Datasheet)", 21 B5 (in) "Blue Pixel Data Inputs (TTL Compatible). Pixel data is latched on the rising edge of CLOCK. R0, G0, and B0 are the least significant data bits. Unused pixel data inputs should be connected to either the regular printed (See Datasheet)", 22 B6 (in) "Blue Pixel Data Inputs (TTL Compatible). Pixel data is latched on the rising edge of CLOCK. R0, G0, and B0 are the least significant data bits. Unused pixel data inputs should be connected to either the regular printed (See Datasheet)", 23 B7 (in) "Blue Pixel Data Inputs (TTL Compatible). Pixel data is latched on the rising edge of CLOCK. R0, G0, and B0 are the least significant data bits. Unused pixel data inputs should be connected to either the regular printed (See Datasheet)", 27 ~{IOB} (out) "Differential Red, Green, and Blue Current Outputs (High Impedance Current Sources). These RGB video outputs are specified to directly drive RS-343A and RS-170 video levels into a doubly terminated 75 ohm load. If the (See Datasheet)", 28 IOB (out) "Red, Green, and Blue Current Outputs. These high impedance current sources are capable of directly driving a doubly terminated 75 ohm coaxial cable. All three current outputs should have similar output loads whether or not (See Datasheet)"
part D pins: 1 GND (power) "Ground. All GND pins must be connected.", 2 GND (power) "Ground. All GND pins must be connected.", 11 ~{BLANK} (in) "Composite Blank Control Input (TTL Compatible). A Logic 0 on this control input drives the analog outputs, IOR, IOB, and IOG, to the blanking level. The B\L\A\N\K\ signal is latched on the rising edge of CLOCK. While (See Datasheet)", 12 ~{SYNC} (in) "Composite Sync Control Input (TTL Compatible). A Logic 0 on the S\Y\N\C\ input switches off a 40 IRE current source. This is internally connected to the IOG analog output. S\Y\N\C\ does not override any other control or data (See Datasheet)", 13 VAA (power) "Analog Power Supply (5 V +/- 5%). All VAA pins on the ADV7125 must be connected.", 14 GND (power) "Ground. All GND pins must be connected.", 15 GND (power) "Ground. All GND pins must be connected.", 24 CLOCK (in) "Clock Input (TTL Compatible). The rising edge of CLOCK latches the R0 to R7, G0 to G7, B0 to B7, S\Y\N\C\, and B\L\A\N\K\ pixel and control inputs. It is typically the pixel clock rate of the video system. CLOCK should be (See Datasheet)", 25 GND (power) "Ground. All GND pins must be connected.", 26 GND (power) "Ground. All GND pins must be connected.", 29 VAA (power) "Analog Power Supply (5 V +/- 5%). All VAA pins on the ADV7125 must be connected.", 30 VAA (power) "Analog Power Supply (5 V +/- 5%). All VAA pins on the ADV7125 must be connected.", 35 COMP "Compensation Pin. This is a compensation pin for the internal reference amplifier. A 0.1 uF ceramic capacitor must be connected between COMP and VAA.", 36 VREF (io) "Voltage Reference Input for DACs or Voltage Reference Output (1.235 V).", 37 RSET (in) "A resistor (RSET) connected between this pin and GND controls the magnitude of the full-scale video signal. Note that the IRE relationships are maintained, regardless of the full-scale output current. The relationship (See Datasheet)", 38 ~{PSAVE} (in) "Power Save Control Pin. Reduced power consumption is available on the ADV7125 when this pin is active.", 39 GND (power) "Ground. All GND pins must be connected.", 40 GND (power) "Ground. All GND pins must be connected."